# Altium footprint library 7460553.PcbLib: 1 footprints
Each footprint in its own frame and in the unit in brackets; x right, y up, seen from the top. Pads: shape width x height; smd on the part's side, far side on the other; paste and mask are expansions set on the pad; w line width, h text height; cw(c..) or ccw(c..) is an arc to the next point about the centre after c.
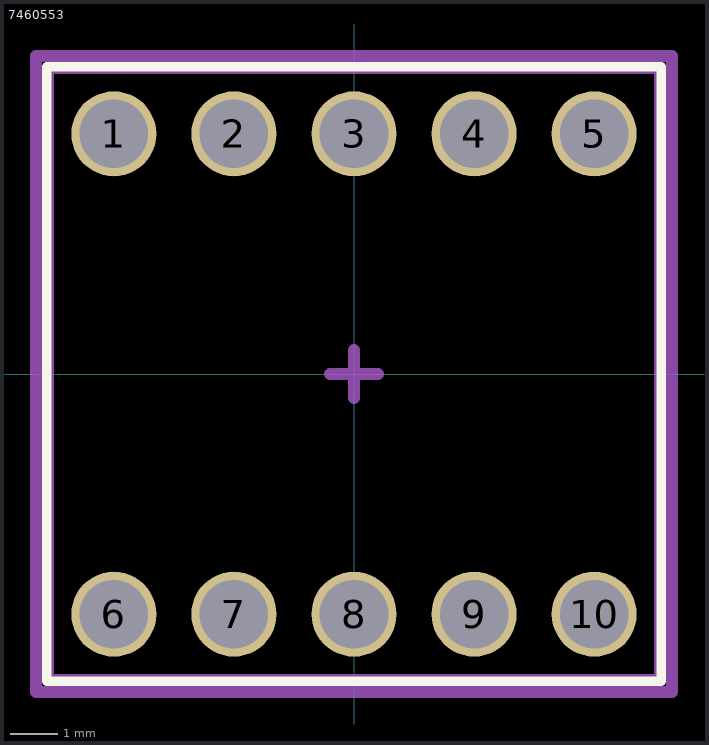
[diagram p0: the footprint, top view; thin cyan lines are the x and y axes]

## 7460553 [mm] "WP-BUTR Bushes with two Rows Pin-Plate, M8, blind thr 10mm"
height 13.5
pads (10):
  round 1.8 hole 1.45: 1(-5.08,5.08) 2(-2.54,5.08) 3(0,5.08) 4(2.54,5.08) 5(5.08,5.08) 6(-5.08,-5.08) 7(-2.54,-5.08) 8(0,-5.08) 9(2.54,-5.08) 10(5.08,-5.08)
Top Overlay:
  lines w0.2: -6.5,-6.5 6.5,-6.5 6.5,6.5 -6.5,6.5 -6.5,-6.5
Top Designator:
  text ".Designator" at -7.618,-0.508 h1.52
Mechanical 13:
  lines w0.254: -6.477,-6.477 6.477,-6.477 6.477,6.477 -6.477,6.477 -6.477,-6.477
Mechanical 15:
  lines w0.254: -6.731,6.477 -6.731,6.731 6.731,6.731 6.731,-6.731 -6.731,-6.731 -6.731,6.604 ; -0.508,0 0,0 ; 0,-0.508 0,0 ; 0,0.508 0,0 ; 0.508,0 0,0
3D body "7460553.stp": height 13.5, standoff -3.5, extent -6.5,-6.5 6.5,6.5